# EAGLE library part XR-2401P (library exar)
MICROCONTROLLER
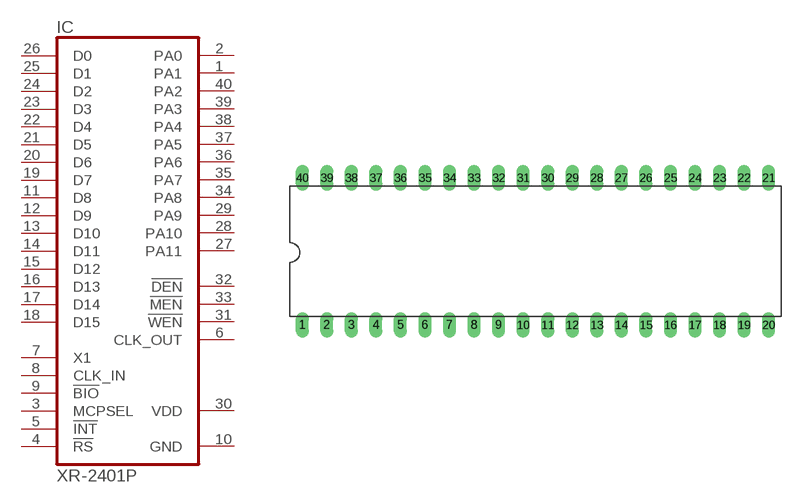
[diagram p43: symbol with the pads of DIL40; footprint DIL40]

Designator prefix IC

## XR-2401P (OC_FARNELL: unknown; OC_NEWARK: unknown)  [DIL40]
1  PA1  out
2  PA0  out
3  MCPSEL  in
4  !RS  in
5  !INT  in
6  CLK_OUT  out
7  X1  in
8  CLK_IN  in
9  !BIO  in
10  GND  pwr
11  D8
12  D9
13  D10
14  D11
15  D12
16  D13
17  D14
18  D15
19  D7
20  D6
21  D5
22  D4
23  D3
24  D2
25  D1
26  D0
27  PA11  out
28  PA10  out
29  PA9  out
30  VDD  pwr
31  !WEN  out
32  !DEN  out
33  !MEN  out
34  PA8  out
35  PA7  out
36  PA6  out
37  PA5  out
38  PA4  out
39  PA3  out
40  PA2  out

## Footprint DIL40 (pad centres in mm)
Dual In Line Package
drill 0.813 long: 1 -24.13,-7.62; 2 -21.59,-7.62; 3 -19.05,-7.62; 4 -16.51,-7.62; 5 -13.97,-7.62; 6 -11.43,-7.62; 7 -8.89,-7.62; 8 -6.35,-7.62; 9 -3.81,-7.62; 10 -1.27,-7.62; 11 1.27,-7.62; 12 3.81,-7.62; 13 6.35,-7.62; 14 8.89,-7.62; 15 11.43,-7.62; 16 13.97,-7.62; 17 16.51,-7.62; 18 19.05,-7.62; 19 21.59,-7.62; 20 24.13,-7.62; 21 24.13,7.62; 22 21.59,7.62; 23 19.05,7.62; 24 16.51,7.62; 25 13.97,7.62; 26 11.43,7.62; 27 8.89,7.62; 28 6.35,7.62; 29 3.81,7.62; 30 1.27,7.62; 31 -1.27,7.62; 32 -3.81,7.62; 33 -6.35,7.62; 34 -8.89,7.62; 35 -11.43,7.62; 36 -13.97,7.62; 37 -16.51,7.62; 38 -19.05,7.62; 39 -21.59,7.62; 40 -24.13,7.62